# Altium schematic symbol library AON6407.SchLib: 1 symbol
Pins are listed as number, name and electrical type; pins without a type are passive.

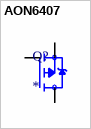
[diagram p0: symbol AON6407]

## AON6407
designator Q?
P-Channel 30V 32A (Ta), 85A (Tc) 7.3W (Ta), 83W (Tc) Surface Mount 8-DFN (5x6); MP: AON6407; MF: {'manufacturer': u'Alpha &'}; Availability: Unavailable; Value: *; Price: None; Package: None
footprint TRANS_AON6407
pins: 1 S, 2 S, 3 S, 4 G, 5_8 D